# EAGLE library part 618026325223 (library Wuerth_Elektronik_eiCan_D-SUB_Connectors)
WR-DSUB Female High Density Angled PCB Connector without Hex Screw, 26 Pins
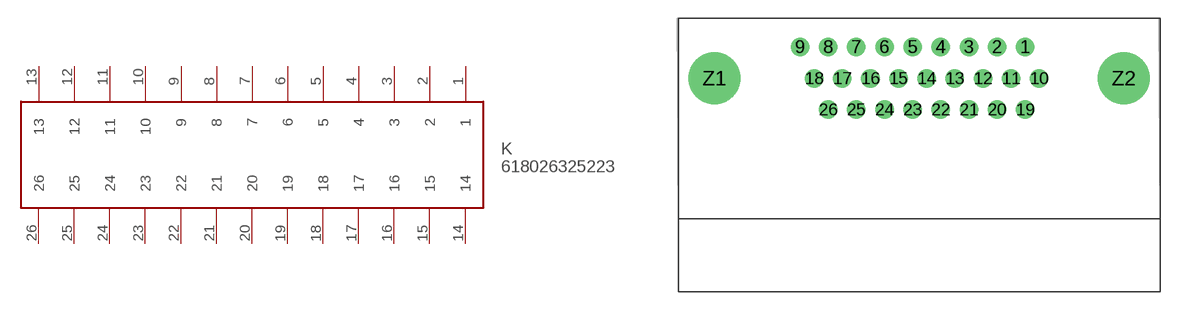
[diagram p61: symbol with the pads of 618026325223; footprint 618026325223]

Designator prefix K

## 618026325223  [618026325223]
1  1
2  2
3  3
4  4
5  5
6  6
7  7
8  8
9  9
10  10
11  11
12  12
13  13
14  14
15  15
16  16
17  17
18  18
19  19
20  20
21  21
22  22
23  23
24  24
25  25
26  26

## Footprint 618026325223 (pad centres in mm)
WR-DSUB Female High Density Angled PCB Connector without Hex Screw, 26 Pins
drill 1 round: 1 8.625,2.54; 2 6.335,2.54; 3 4.045,2.54; 4 1.755,2.54; 5 -0.535,2.54; 6 -2.825,2.54; 7 -5.115,2.54; 8 -7.405,2.54; 9 -9.695,2.54; 10 9.77,0; 11 7.48,0; 12 5.19,0; 13 2.9,0; 14 0.61,0; 15 -1.68,0; 16 -3.97,0; 17 -6.26,0; 18 -8.55,0; 19 8.625,-2.54; 20 6.335,-2.54; 21 4.045,-2.54; 22 1.755,-2.54; 23 -0.535,-2.54; 24 -2.825,-2.54; 25 -5.115,-2.54; 26 -7.405,-2.54
drill 3.2 round: Z1 -16.65,0; Z2 16.65,0